# EAGLE library part TPS61200 (library PonLib)
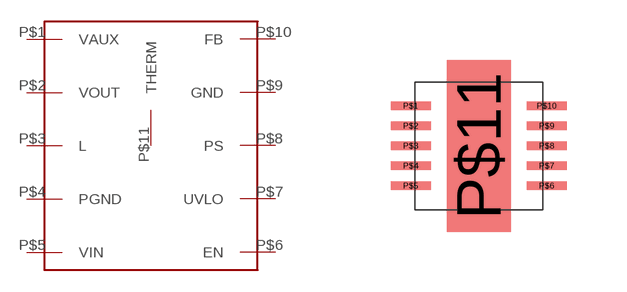
[diagram p24: symbol with the pads of QFN10-P; footprint QFN10-P]

Designator prefix -

## TPS61200  [QFN10-P]
P$1  VAUX
P$2  VOUT
P$3  L
P$4  PGND
P$5  VIN
P$6  EN
P$7  UVLO
P$8  PS
P$9  GND
P$10  FB
P$11  THERM

## Footprint QFN10-P (pad centres in mm)
smd 1 x 0.22: P$1 -1.7,1; P$2 -1.7,0.5; P$3 -1.7,0; P$4 -1.7,-0.5; P$5 -1.7,-1; P$6 1.7,-1; P$7 1.7,-0.5; P$8 1.7,0; P$9 1.7,0.5; P$10 1.7,1
smd 1.6 x 4.3: P$11 0,0